# EAGLE library part L806CWR3K (library NullSpaceLabsCom)
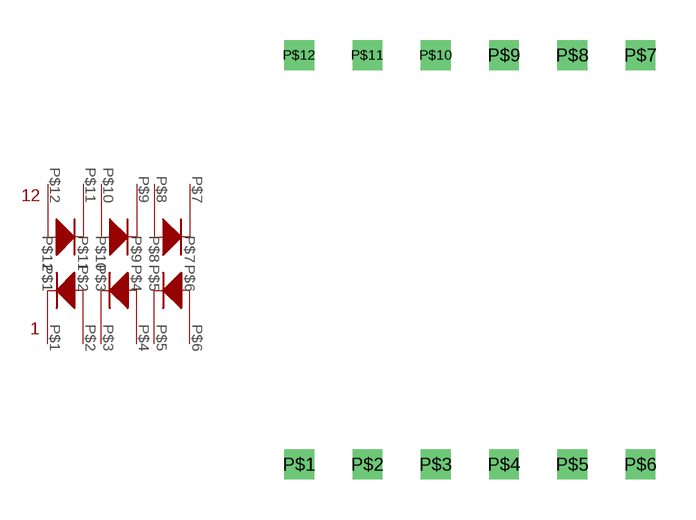
[diagram p0: symbol with the pads of L806CWR3K; footprint L806CWR3K]

Designator prefix -

## L806CWR3KL806CWR3K  [L806CWR3K]
P$1  P$1
P$2  P$2
P$3  P$3
P$4  P$4
P$5  P$5
P$6  P$6
P$7  P$7
P$8  P$8
P$9  P$9
P$10  P$10
P$11  P$11
P$12  P$12

## Footprint L806CWR3K (pad centres in mm)
drill 0.6 square: P$1 -6.35,-7.62; P$2 -3.81,-7.62; P$3 -1.27,-7.62; P$4 1.27,-7.62; P$5 3.81,-7.62; P$6 6.35,-7.62; P$7 6.35,7.62; P$8 3.81,7.62; P$9 1.27,7.62; P$10 -1.27,7.62; P$11 -3.81,7.62; P$12 -6.35,7.62